# EAGLE library part ONOFFSWTCH (library vikc-switch)
Push on push off Switch
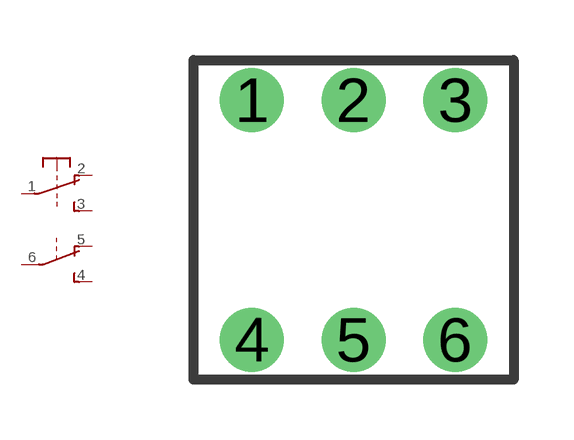
[diagram p0: symbol with the pads of DPDTSWTCH; footprint DPDTSWTCH]

Designator prefix -

## ONOFFSWTCH  [DPDTSWTCH]
1  1
2  2
3  3
4  4
5  5
6  6

## Footprint DPDTSWTCH (pad centres in mm)
drill 0.8 pad 1.6: 1 -2.54,3; 2 0,3; 3 2.54,3; 4 -2.54,-3; 5 0,-3; 6 2.54,-3